# Altium footprint library 15400385A3590.PcbLib: 1 footprints
Each footprint in its own frame and in the unit in brackets; x right, y up, seen from the top. Pads: shape width x height; smd on the part's side, far side on the other; paste and mask are expansions set on the pad; w line width, h text height; cw(c..) or ccw(c..) is an arc to the next point about the centre after c.
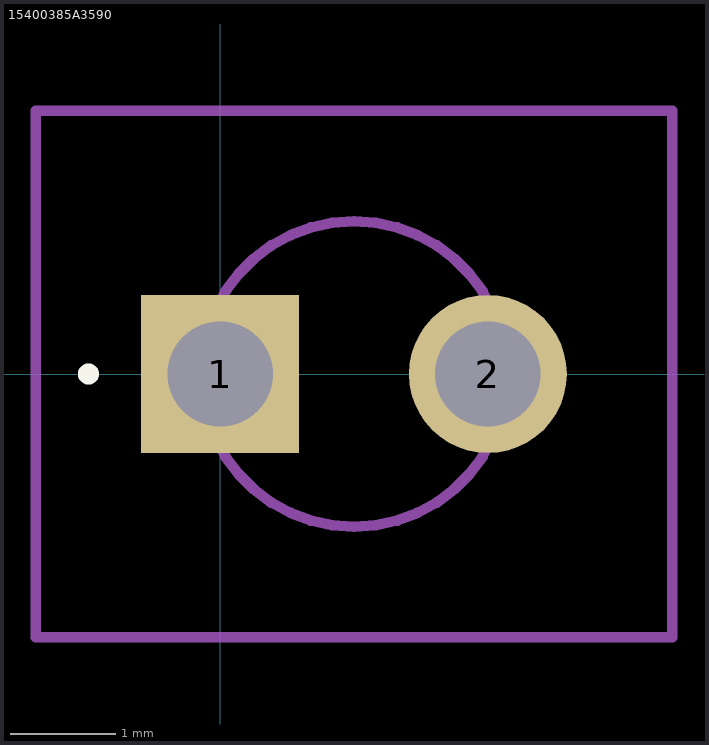
[diagram p0: the footprint, top view; thin cyan lines are the x and y axes]

## 15400385A3590 [mm]
pads (2):
  rect 1.5x1.5 hole 1: 1(0,0)
  round 1.5 hole 1: 2(2.54,0)
Top Overlay:
  lines w0.1: -1.3,0 cw(c-1.25,0) -1.2,0 ; -1.3,0 -1.3,0 ; -1.3,0 ccw(c-1.25,0) -1.2,0 ; -1.2,0 -1.2,0
Mechanical 15:
  lines w0.1: -0.18,0 -0.18,0 ; -0.18,0 ccw(c1.27,0) 2.72,0 ; -0.18,0 cw(c1.27,0) 2.72,0 ; 2.72,0 2.72,0
Mechanical 20:
  lines w0.1: -1.75,-2.5 4.29,-2.5 4.29,2.5 -1.75,2.5 -1.75,-2.5
3D body "15400385A3590.stp": height 5.8, standoff -4.65, extent -10,-3.376 10,3.376